# Altium schematic symbol library Altium_Library.SchLib: 21 symbols
Pins are listed as number, name and electrical type; pins without a type are passive.

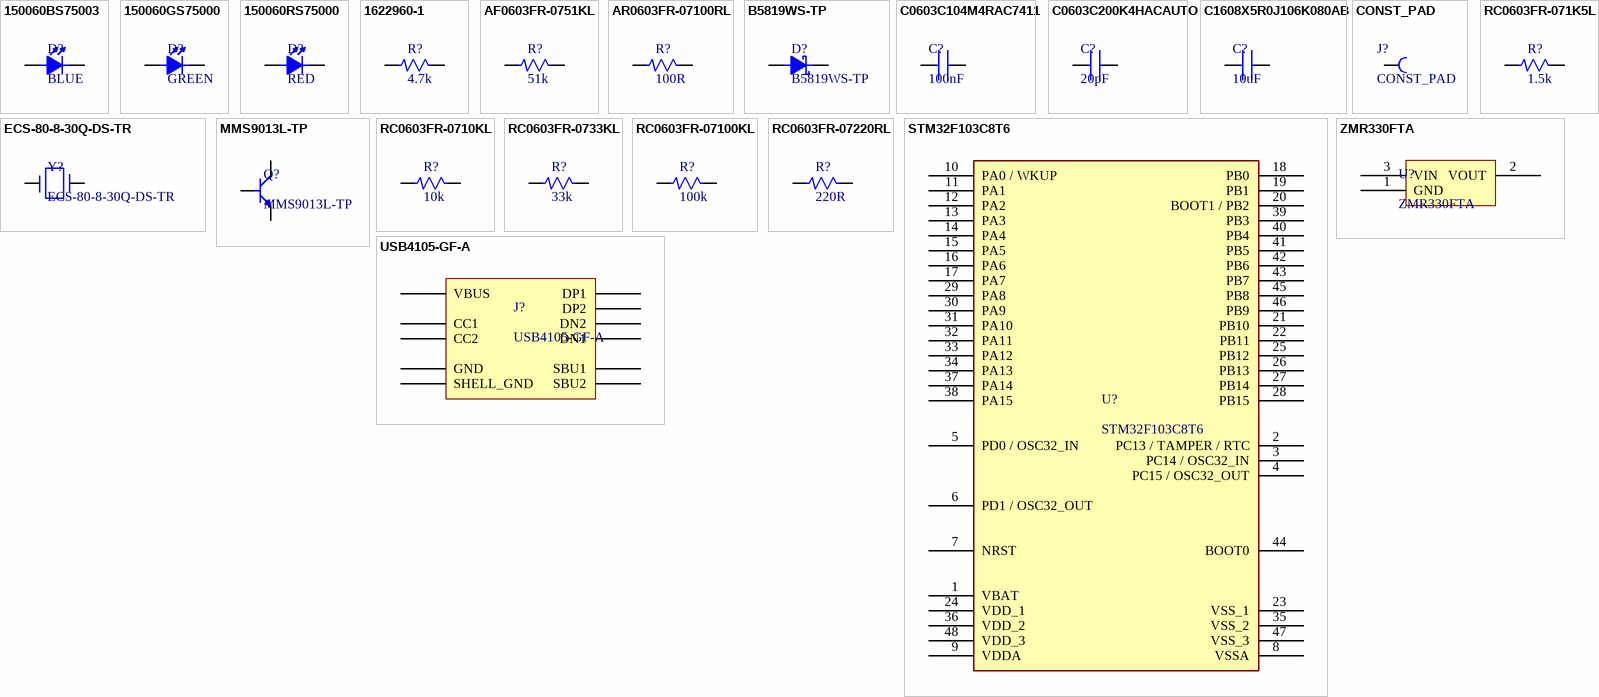
[diagram p0: symbols 150060BS75003 to ZMR330FTA]

## 150060BS75003
designator D?, comment BLUE
SMT Mono-color Chip Led Watercle; Manufacturer: Wurth Electronics; Manufacturer Part Number: 150060BS75003; Supplier 1: Rs; RoHS: No; Category: LEDs; Stock 1: 11175; Pricing 1: 50=0.00824, 100=0.18100, 500=0.16500, 2000=0.13200 (GBP); Supplier Part Number 1: 2407008P
footprint LED_0603_B
pins: 1 cathode, 2 anode

## 150060GS75000
designator D?, comment GREEN
Led, Green, 520 Nm, 3.2 V, 30 Ma, 430 Mcd Rohs Compliant: Yes; Manufacturer: Wurth Electronics; Manufacturer Part Number: 150060GS75000; Lens Color: Colorless; Wavelength: 520nm; Viewing Angle: 140°; Lens Style: Clear,Flat,Rectangular; Luminous Intensity: 430mcd; Forward Current: 30mA; Forward Voltage: 3.2V; Test Current: 20mA; Lens Transparency: Clear; Lens Size: 0.7mm; Supplier 1: Rs; RoHS: Yes; Category: LEDs; Stock 1: 20200; Pricing 1: 500=0.00083, 1000=0.07900, 2000=0.07500, 4000=0.07100 (GBP); Mount: Surface Mount; Case/Package: 0603; Color: Green; Case Code (Metric): 1608; Case Code (Imperial): 0603; Min Operating Temperature: -40°C; Max Operating Temperature: 85°C; Package Quantity: 1; Packaging: Cut Tape; Dominant Wavelength: 520nm; Series: WL-SMCW; Length: 1.6mm; Width: 0.8mm; Height: 0.8mm; Lead Free: Lead Free; RoHS Compliant: Yes; ComponentLink1URL: https://datasheet.ciiva.com/29562/150060gs75000-29562868.pdf?src-supplier=Digi-Key; ComponentLink1Description: https://datasheet.ciiva.com/29562/150060gs75000-29562868.pdf?src-supplier=Digi-Key; ComponentLink2URL: https://datasheet.ciiva.com/29279/759427-da-01-en-chipled-0603-w-kl-gruen-150060gs75000-29279201.pdf?src-supplier=Conrad; ComponentLink2Description: https://datasheet.ciiva.com/29279/759427-da-01-en-chipled-0603-w-kl-gruen-150060gs75000-29279201.pdf?src-supplier=Conrad; ComponentLink3URL: https://datasheet.ciiva.com/29562/150060gs75000-29562869.pdf?src-supplier=Digi-Key; ComponentLink3Description: https://datasheet.ciiva.com/29562/150060gs75000-29562869.pdf?src-supplier=Digi-Key; ComponentLink4URL: https://datasheet.ciiva.com/29562/150060gs75000-29562870.pdf?src-supplier=Digi-Key; ComponentLink4Description: https://datasheet.ciiva.com/29562/150060gs75000-29562870.pdf?src-supplier=Digi-Key; Supplier Part Number 1: 8154209P
footprint LED_0603_G
pins: 1 cathode, 2 anode

## 150060RS75000
designator D?, comment RED
LED Low-Power Uni-Color Red 630nm 2V 2-Pin Chip 0603(1608Metric) T/R; Manufacturer: Wurth Electronics; Manufacturer Part Number: 150060RS75000; Lens Color: Colorless; Viewing Angle: 140°; Lens Style: Clear,Flat,Rectangular; Luminous Intensity: 250mcd; Forward Current: 30mA; Wavelength: 625nm; Test Current: 20mA; Lens Transparency: Clear; Lens Size: 0.7mm; Supplier 1: Rs; RoHS: Yes; Category: LEDs; Stock 1: 8900; Pricing 1: 500=0.00083, 1000=0.07900, 2000=0.07500, 4000=0.07200 (GBP); Mount: Surface Mount; Case/Package: 0603; Color: Red; Case Code (Metric): 1608; Case Code (Imperial): 0603; Min Operating Temperature: -40°C; Max Operating Temperature: 85°C; Package Quantity: 1; Packaging: Cut Tape; Forward Voltage: 2V; Dominant Wavelength: 625nm; Series: WL-SMCW; Length: 1.6mm; Width: 0.8mm; Height: 0.8mm; RoHS Compliant: Yes; ComponentLink1URL: https://datasheet.ciiva.com/29563/150060rs75000-29563040.pdf?src-supplier=Digi-Key; ComponentLink1Description: https://datasheet.ciiva.com/29563/150060rs75000-29563040.pdf?src-supplier=Digi-Key; ComponentLink2URL: https://datasheet.ciiva.com/29279/759428-da-01-en-chipled-0603-w-kl-rot-150060rs75000-29279196.pdf?src-supplier=Conrad; ComponentLink2Description: https://datasheet.ciiva.com/29279/759428-da-01-en-chipled-0603-w-kl-rot-150060rs75000-29279196.pdf?src-supplier=Conrad; Supplier Part Number 1: 8154203P
footprint LED_0603_R
pins: 1 cathode, 2 anode

## 1622960-1
designator R?, comment 4.7k
Res Thick Film 0603 4.7K Ohm 1% 0.1W(1/10W) ±100ppm/C Pad SMD T/R; Manufacturer: TE Connectivity; Manufacturer Part Number: 1622960-1; Supplier 1: Newark; RoHS: Yes; Category: Uncategorized; Stock 1: 19907; Pricing 1: 1=0.004000, 25=0.004000, 100=0.004000, 250=0.004000, 500=0.004000, 1000=0.004000 (USD); ComponentLink1URL: https://datasheet.ciiva.com/6538/eng-cd-1622282-ba-6538072.pdf?src-supplier=Digi-Key; ComponentLink1Description: https://datasheet.ciiva.com/6538/eng-cd-1622282-ba-6538072.pdf?src-supplier=Digi-Key; ComponentLink2URL: https://datasheet.ciiva.com/8912/eng-ds-1773204-f-8912646.pdf?src-supplier=Avnet; ComponentLink2Description: https://datasheet.ciiva.com/8912/eng-ds-1773204-f-8912646.pdf?src-supplier=Avnet; Supplier Part Number 1: 46AK9345
footprint R_0603
pins: 1, 2

## AF0603FR-0751KL
designator R?, comment 51k
Res Thick Film 0603 51K Ohm 1% 1/10W ±100ppm/°C Molded SMD Paper T/R; Manufacturer: Yageo; Manufacturer Part Number: AF0603FR-0751KL; Resistance: 51kR; Max Power Dissipation: 100mW; Supplier 1: Mouser; RoHS: Yes; Category: Chip SMD Resistors; Stock 1: 893; Pricing 1: 1=0.19000, 10=0.06300, 50=0.06300, 100=0.02600, 1000=0.01200, 10000=0.00800 (USD); Case/Package: 0603; Min Operating Temperature: -55°C; Max Operating Temperature: 155°C; Packaging: Tape and Reel; Resistor Type: Thick Film; Number of Terminations: 2; Tolerance: 1%; Temperature Coefficient: 100ppm/°C; Features: Moisture Resistant,Anti-Sulfur; Length: 0.063inch; Width: 0.031inch; Height: 0.022inch; RoHS Compliant: Yes; ComponentLink1URL: http://www.yageo.com/documents/recent/PYu-AF_51_RoHS_L_5.pdf?src-supplier=Digi-Key; ComponentLink1Description: http://www.yageo.com/documents/recent/PYu-AF_51_RoHS_L_5.pdf?src-supplier=Digi-Key; Supplier Part Number 1: 603-AF0603FR-0751KL
footprint R_0603
pins: 1, 2

## AR0603FR-07100RL
designator R?, comment 100R
Res Thick Film 0603 100 Ohm 1% 1/10W ±100ppm/°C Molded SMD SMD Paper T/R; Manufacturer: Yageo; Manufacturer Part Number: AR0603FR-07100RL; Max Power Dissipation: 100mW; Supplier 1: Mouser; RoHS: Yes; Category: Chip SMD Resistors; Stock 1: 2721; Pricing 1: 1=0.44000, 10=0.33800, 50=0.33800, 100=0.14200, 1000=0.07900, 10000=0.06400 (USD); Case/Package: 0603; Contact Plating: Gold; Min Operating Temperature: -55°C; Max Operating Temperature: 155°C; Resistance: 100R; Tolerance: 1%; Packaging: Tape and Reel; Resistor Type: Thick Film; Number of Terminations: 2; Temperature Coefficient: 100ppm/°C; Features: Moisture Resistant; Series: AR; Length: 0.063inch; Width: 0.032inch; Height: 0.022inch; Radiation Hardening: No; RoHS Compliant: Yes; ComponentLink1URL: https://datasheet.ciiva.com/8887/pyu-ar-51-rohs-l-7-8887862.pdf?src-supplier=Avnet; ComponentLink1Description: https://datasheet.ciiva.com/8887/pyu-ar-51-rohs-l-7-8887862.pdf?src-supplier=Avnet; Supplier Part Number 1: 603-AR0603FR-07100RL
footprint R_0603
pins: 1, 2

## B5819WS-TP
designator D?
DIODE SCHOTTKY 40V 1A SOD323; Manufacturer: MCC; Max Surge Current: 10A; Forward Voltage: 900mV; Max Reverse Leakage Current: 1mA; Element Configuration: Single; Supplier 1: Future Electronics; Manufacturer Part Number: B5819WS-TP; RoHS: Yes; Category: Rectifier Diodes; Stock 1: 168000; Pricing 1: 3000=0.05800, 9000=0.05580, 15000=0.05480, 45000=0.05280, 75000=0.05100 (USD); Mount: Surface Mount; Number of Pins: 2; Min Operating Temperature: -65°C; Max Operating Temperature: 125°C; Package Quantity: 1; Packaging: Tape and Reel; Average Rectified Current: 1A; Peak Non-Repetitive Surge Current: 10A; Max Reverse Voltage (DC): 40V; Series: -; Radiation Hardening: No; Lead Free: Lead Free; RoHS Compliant: Yes; ComponentLink1URL: https://datasheet.ciiva.com/4715/b5817ws-b5819wssod-323-48861-4715941.pdf?src-supplier=Mouser; ComponentLink1Description: https://datasheet.ciiva.com/4715/b5817ws-b5819wssod-323-48861-4715941.pdf?src-supplier=Mouser; ComponentLink2URL: https://datasheet.ciiva.com/15200/getdatasheetpartid-184930-15200423.pdf?src-supplier=Verical; ComponentLink2Description: https://datasheet.ciiva.com/15200/getdatasheetpartid-184930-15200423.pdf?src-supplier=Verical; ComponentLink3URL: https://datasheet.ciiva.com/912/b5817ws-b5819wssod-323-912736.pdf?src-supplier=Digi-Key; ComponentLink3Description: https://datasheet.ciiva.com/912/b5817ws-b5819wssod-323-912736.pdf?src-supplier=Digi-Key; ComponentLink4URL: https://datasheet.ciiva.com/912/b5817ws-b5819wssod-323-912737.pdf?src-supplier=Digi-Key; ComponentLink4Description: https://datasheet.ciiva.com/912/b5817ws-b5819wssod-323-912737.pdf?src-supplier=Digi-Key; ComponentLink5URL: https://datasheet.ciiva.com/912/b5817ws-b5819wssod-323-912735.pdf?src-supplier=Digi-Key; ComponentLink5Description: https://datasheet.ciiva.com/912/b5817ws-b5819wssod-323-912735.pdf?src-supplier=Digi-Key; Supplier Part Number 1: 6054560
footprint SOD_323
pins: 1 cathode, 2 anode

## C0603C104M4RAC7411
designator C?, comment 100nF
Cap Ceramic 0.1uF 16V X7R 20% SMD 0603 125 Paper T/R; Manufacturer: KEMET; Manufacturer Part Number: C0603C104M4RAC7411; Dissipation Factor: 3.5%; Supplier 1: Mouser; RoHS: Yes; Category: Ceramic Capacitors; Stock 1: 1220822; Pricing 1: 1=0.10000, 10=0.02700, 50=0.02700, 100=0.01200, 1000=0.00700, 10000=0.00500 (USD); Mount: Surface Mount; Case/Package: 0603; Case Code (Imperial): 0603; Case Code (Metric): 1608; Dielectric Material: Ceramic; Min Operating Temperature: -55°C; Max Operating Temperature: 125°C; Capacitance: 100nF; Package Quantity: 10000; Voltage Rating: 16V; Tolerance: 20%; Packaging: Tape and Reel; Voltage Rating (DC): 16V; Dielectric: X7R; Termination: SMD/SMT; Series: C; Construction: Flat; Length: 1.6mm; Width: 0.8mm; Height: 0.8mm; Lead Pitch: 0.7mm; Thickness: 0.034inch; Depth: 0.8mm; Radiation Hardening: No; RoHS Compliant: Yes; ComponentLink1URL: http://components.arrow.com/part/dataview/3446650S8993799N7429?src-supplier=Arrow+Electronics; ComponentLink1Description: http://components.arrow.com/part/dataview/3446650S8993799N7429?src-supplier=Arrow+Electronics; ComponentLink2URL: http://www.mouser.com/ds/2/212/KEM_C1002_X7R_SMD-1102033.pdf?src-supplier=Mouser; ComponentLink2Description: http://www.mouser.com/ds/2/212/KEM_C1002_X7R_SMD-1102033.pdf?src-supplier=Mouser; ComponentLink3URL: http://www.farnell.com/datasheets/2747785.pdf?src-supplier=Farnell; ComponentLink3Description: http://www.farnell.com/datasheets/2747785.pdf?src-supplier=Farnell; ComponentLink4URL: http://www.jameco.com/Jameco/Products/ProdDS/1565046.pdf?src-supplier=Jameco; ComponentLink4Description: http://www.jameco.com/Jameco/Products/ProdDS/1565046.pdf?src-supplier=Jameco; ComponentLink5URL: http://www.farnell.com/datasheets/2747785.pdf?src-supplier=Element14; ComponentLink5Description: http://www.farnell.com/datasheets/2747785.pdf?src-supplier=Element14; ComponentLink6URL: http://www.farnell.com/datasheets/2747785.pdf?src-supplier=Newark; ComponentLink6Description: http://www.farnell.com/datasheets/2747785.pdf?src-supplier=Newark; ComponentLink7URL: https://api.kemet.com/component-edge/download/datasheet/C0603C104M4RAC7411.pdf?src-supplier=Digi-Key; ComponentLink7Description: https://api.kemet.com/component-edge/download/datasheet/C0603C104M4RAC7411.pdf?src-supplier=Digi-Key; ComponentLink8URL: http://www.kemet.com/docfinder?Partnumber=C0603C104M4RAC7411&src-supplier=Digi-Key; ComponentLink8Description: http://www.kemet.com/docfinder?Partnumber=C0603C104M4RAC7411&src-supplier=Digi-Key; ComponentLink9URL: http://capacitoredge.kemet.com/capedge2/DataSheet?pn=C0603C104M4RAC7411&src-supplier=Avnet; ComponentLink9Description: http://capacitoredge.kemet.com/capedge2/DataSheet?pn=C0603C104M4RAC7411&src-supplier=Avnet; ComponentLink10URL: https://www.verical.com/server-webapp/html/getDatasheet?partID=58458&src-supplier=Verical; ComponentLink10Description: https://www.verical.com/server-webapp/html/getDatasheet?partID=58458&src-supplier=Verical; Supplier Part Number 1: 80-C0603C104M4R7411
footprint C_0603
pins: 1, 2

## C0603C200K4HACAUTO
designator C?, comment 20pF
Cap Cer 0603 20PF 16V Ultra Stab; Manufacturer: KEMET; Manufacturer Part Number: C0603C200K4HACAUTO; Supplier 1: Mouser; RoHS: Yes; Category: Ceramic Capacitors; Stock 1: 12700; Pricing 1: 1=0.18000, 10=0.08500, 50=0.08500, 100=0.04000, 1000=0.02400, 10000=0.02000 (USD); RoHS Compliant: Yes; Supplier Part Number 1: 80-C0603C200K4HAUTO
footprint C_0603
pins: 1, 2

## C1608X5R0J106K080AB
designator C?, comment 10uF
C Series 0603 10 uF 6.3 V ±10 % Tolerance X5R SMT Multilayer Ceramic Capacitor; Manufacturer: TDK; Manufacturer Part Number: C1608X5R0J106K080AB; Voltage Rating: 6.3V; Tolerance: 10%; Supplier 1: Rs; RoHS: Yes; Category: Ceramic Capacitors; Stock 1: 5030; Pricing 1: 50=0.01610, 100=0.14500, 250=0.12600, 500=0.10600 (GBP); Mount: Surface Mount; Case/Package: 0603; Case Code (Metric): 1608; Case Code (Imperial): 0603; Dielectric Material: Ceramic; Weight: 7.1E-05oz; Min Operating Temperature: -55°C; Max Operating Temperature: 85°C; Capacitance: 10uF; Packaging: Tape and Reel; Voltage Rating (DC): 6.3V; Dielectric: X5R; Termination: SMD/SMT; Construction: Flat; Package Quantity: 1; Resistor Type: Ceramic; Voltage: 6.3V; Series: C; Length: 1.6mm; Width: 0.031inch; Height: 0.8mm; Depth: 0.8mm; Thickness: 0.035inch; Radiation Hardening: No; Lead Free: Lead Free; Reach SVHC Compliant: Yes; RoHS Compliant: Yes; ComponentLink1URL: https://datasheet.ciiva.com/23802/1796654-23802758.pdf?src-supplier=Newark; ComponentLink1Description: https://datasheet.ciiva.com/23802/1796654-23802758.pdf?src-supplier=Newark; ComponentLink2URL: https://datasheet.ciiva.com/6288/tdkmlcccaprange-6288538.pdf?src-supplier=Digi-Key; ComponentLink2Description: https://datasheet.ciiva.com/6288/tdkmlcccaprange-6288538.pdf?src-supplier=Digi-Key; ComponentLink3URL: https://datasheet.ciiva.com/28451/1796654-28451132.pdf?src-supplier=Element14; ComponentLink3Description: https://datasheet.ciiva.com/28451/1796654-28451132.pdf?src-supplier=Element14; ComponentLink4URL: https://datasheet.ciiva.com/6288/tdkmlcccaprange-6288541.pdf?src-supplier=Digi-Key; ComponentLink4Description: https://datasheet.ciiva.com/6288/tdkmlcccaprange-6288541.pdf?src-supplier=Digi-Key; ComponentLink5URL: https://datasheet.ciiva.com/16448/general-b11-16448959.pdf?src-supplier=Future+Electronics; ComponentLink5Description: https://datasheet.ciiva.com/16448/general-b11-16448959.pdf?src-supplier=Future+Electronics; ComponentLink6URL: https://datasheet.ciiva.com/22719/1796654-22719535.pdf?src-supplier=Element14; ComponentLink6Description: https://datasheet.ciiva.com/22719/1796654-22719535.pdf?src-supplier=Element14; Supplier Part Number 1: 7882887P
footprint C_0603
pins: 1, 2

## CONST_PAD
designator J?  (no BOM)
footprint CONST_PAD
pins: 0 PAD

## ECS-80-8-30Q-DS-TR
designator Y?
Crystal 8.000 Mhz 8PF SMD; Manufacturer: ECS International; Supplier 1: Mouser; Manufacturer Part Number: ECS-80-8-30Q-DS-TR; RoHS: Yes; Category: Uncategorized; Stock 1: 2000; Pricing 1: 1=0.84000, 10=0.73600, 50=0.73600, 100=0.60800, 1000=0.47900, 10000=0.43100 (USD); RoHS Compliant: Yes; Supplier Part Number 1: 520-80-8-30Q-DS-TR
footprint ECS-80-8-30Q-DS-TR
pins: 1, 2

## MMS9013L-TP
designator Q?
Trans Gp Bjt NPN 25V 0.5A 3-PIN SOT-23 T/r; Manufacturer: MCC; Number of Elements: 1; Collector Base Voltage (VCBO): 40V; Emitter Base Voltage (VEBO): 5V; Power Dissipation: 300mW; Frequency: 150MHz; Supplier 1: Mouser; Manufacturer Part Number: MMS9013L-TP; RoHS: Yes; Category: BJTs; Stock 1: 2960; Pricing 1: 1=0.28000, 10=0.22800, 50=0.22800, 100=0.12100, 1000=0.05500, 10000=0.03600 (USD); Mount: Surface Mount; Case/Package: SOT-23; Number of Pins: 3; Min Operating Temperature: -55°C; Max Operating Temperature: 150°C; Polarity: NPN; Packaging: Tape and Reel; Collector Emitter Voltage (VCEO): 25V; ComponentLink1URL: http://components.arrow.com/part/dataview/51062823S110403N2022?src-supplier=Arrow+Electronics; ComponentLink1Description: http://components.arrow.com/part/dataview/51062823S110403N2022?src-supplier=Arrow+Electronics; Supplier Part Number 1: 833-MMS9013L-TP
footprint SOT_23
pins: 1, 2, 3

## RC0603FR-071K5L
designator R?, comment 1.5k
Res General Purpose Thick Film 0603 1.5K Ohm 1% 1/10W ±100ppm/°C Molded SMD Paper T/R; Manufacturer: Yageo; Manufacturer Part Number: RC0603FR-071K5L; Voltage Rating (DC): 50V; Resistance: 1.5kR; Power Rating: 100mW; Supplier 1: Future Electronics; RoHS: Yes; Category: Chip SMD Resistors; Stock 1: 16310000; Pricing 1: 5000=0.00150, 50000=0.00140, 100000=0.00140, 200000=0.00140, 375000=0.00140, 625000=0.00130, 1250000=0.00130, 2000000=0.00120, 5000000=0.00120 (USD); Case/Package: 0603; Number of Pins: 2; Case Code (Metric): 1608; Case Code (Imperial): 0603; Size Code: 0603; Min Operating Temperature: -55°C; Max Operating Temperature: 155°C; Tolerance: 1%; Packaging: Tape and Reel; Temperature Coefficient: 100ppm/°C; Resistor Type: Thick Film; Voltage Rating: 50V; Package Quantity: 1; Number of Terminations: 2; Termination: SMD/SMT; Max Power Dissipation: 100mW; Features: Moisture Resistant; Series: RC; Resistance Tolerance: 1%; Construction: Rectangular; Length: 0.063inch; Width: 0.031inch; Height: 0.022inch; Depth: 0.8mm; Reach SVHC Compliant: Yes; Lead Free: Lead Free; Military Standard: Not; RoHS Compliant: Yes; Supplier Part Number 1: 5194295
footprint R_0603
pins: 1, 2

## RC0603FR-0710KL
designator R?, comment 10k
RES SMD 10K OHM 1% 1/10W 0603; Manufacturer: Yageo; Manufacturer Part Number: RC0603FR-0710KL; Voltage Rating (DC): 50V; Resistance: 10kR; Temperature Coefficient: 100ppm/°C; Power Rating: 100mW; Voltage Rating: 75V; Supplier 1: Future Electronics; RoHS: Yes; Category: Chip SMD Resistors; Stock 1: 252929; Pricing 1: 1=0.10000, 20=0.06640, 100=0.04840, 500=0.03040, 2500=0.01240 (USD); Case/Package: 0603; Number of Pins: 2; Case Code (Imperial): 0603; Case Code (Metric): 1608; Weight: 7.1E-05oz; Size Code: 0603; Min Operating Temperature: -55°C; Max Operating Temperature: 155°C; Packaging: Tape and Reel; Tolerance: 1%; Resistor Type: Thick Film; Termination: SMD/SMT; Features: Moisture Resistant; Series: RC; Max Power Dissipation: 100mW; Number of Terminations: 2; Resistance Tolerance: 1%; Construction: Rectangular; Length: 1.6mm; Width: 0.8mm; Height: 0.45mm; Depth: 0.8mm; Lead Pitch: 0.3mm; Reach SVHC Compliant: Yes; Lead Free: Lead Free; Military Standard: Not; RoHS Compliant: Yes; ComponentLink1URL: https://datasheet.ciiva.com/7660/38590-7660789.pdf?src-supplier=Element14; ComponentLink1Description: https://datasheet.ciiva.com/7660/38590-7660789.pdf?src-supplier=Element14; ComponentLink2URL: https://datasheet.ciiva.com/7983/443971-7983596.pdf?src-supplier=Element14; ComponentLink2Description: https://datasheet.ciiva.com/7983/443971-7983596.pdf?src-supplier=Element14; ComponentLink3URL: https://datasheet.ciiva.com/22747/443971-22747519.pdf?src-supplier=Element14; ComponentLink3Description: https://datasheet.ciiva.com/22747/443971-22747519.pdf?src-supplier=Element14; ComponentLink4URL: https://datasheet.ciiva.com/46440/1868787-46440891.pdf?src-supplier=Element14; ComponentLink4Description: https://datasheet.ciiva.com/46440/1868787-46440891.pdf?src-supplier=Element14; ComponentLink5URL: https://datasheet.ciiva.com/7746/1738695-7746239.pdf?src-supplier=Element14; ComponentLink5Description: https://datasheet.ciiva.com/7746/1738695-7746239.pdf?src-supplier=Element14; Supplier Part Number 1: 3349388
footprint R_0603
pins: 1, 2

## RC0603FR-0733KL
designator R?, comment 33k
Res Thick Film 0603 33K Ohm 1% 0.1W(1/10W) ±100ppm/C Pad SMD T/R; Manufacturer: Yageo; Manufacturer Part Number: RC0603FR-0733KL; Resistance: 33kR; Voltage Rating (DC): 50V; Temperature Coefficient: 100ppm/°C; Power Rating: 100mW; Supplier 1: Future Electronics; RoHS: Yes; Category: Chip SMD Resistors; Stock 1: 3300000; Pricing 1: 5000=0.00140, 50000=0.00130, 200000=0.00130, 625000=0.00120, 2000000=0.00110 (USD); Case/Package: 0603; Number of Pins: 2; Case Code (Imperial): 0603; Case Code (Metric): 1608; Size Code: 0603; Min Operating Temperature: -55°C; Max Operating Temperature: 155°C; Tolerance: 1%; Packaging: Tape and Reel; Resistor Type: Thick Film; Voltage Rating: 50V; Package Quantity: 1; Termination: SMD/SMT; Number of Terminations: 2; Max Power Dissipation: 100mW; Features: Moisture Resistant; Series: RC; Resistance Tolerance: 1%; Construction: Rectangular; Length: 0.063inch; Width: 0.031inch; Height: 0.022inch; Depth: 0.8mm; Reach SVHC Compliant: Yes; Lead Free: Lead Free; Military Standard: Not; RoHS Compliant: Yes; ComponentLink1URL: https://datasheet.ciiva.com/46395/443971-46395005.pdf?src-supplier=Element14; ComponentLink1Description: https://datasheet.ciiva.com/46395/443971-46395005.pdf?src-supplier=Element14; ComponentLink2URL: https://datasheet.ciiva.com/2454/pyu-r-int-thick-7-2454010.pdf?src-supplier=Digi-Key; ComponentLink2Description: https://datasheet.ciiva.com/2454/pyu-r-int-thick-7-2454010.pdf?src-supplier=Digi-Key; ComponentLink3URL: https://datasheet.ciiva.com/2454/pyu-r-int-thick-7-2454011.pdf?src-supplier=Digi-Key; ComponentLink3Description: https://datasheet.ciiva.com/2454/pyu-r-int-thick-7-2454011.pdf?src-supplier=Digi-Key; ComponentLink4URL: https://datasheet.ciiva.com/2454/pyu-r-int-thick-7-2454009.pdf?src-supplier=Digi-Key; ComponentLink4Description: https://datasheet.ciiva.com/2454/pyu-r-int-thick-7-2454009.pdf?src-supplier=Digi-Key; ComponentLink5URL: https://datasheet.ciiva.com/7746/443971-7746332.pdf?src-supplier=Element14; ComponentLink5Description: https://datasheet.ciiva.com/7746/443971-7746332.pdf?src-supplier=Element14; ComponentLink6URL: https://datasheet.ciiva.com/7746/443971-7746333.pdf?src-supplier=Element14; ComponentLink6Description: https://datasheet.ciiva.com/7746/443971-7746333.pdf?src-supplier=Element14; ComponentLink7URL: https://datasheet.ciiva.com/15189/getdatasheetpartid-353493-15189706.pdf?src-supplier=Verical; ComponentLink7Description: https://datasheet.ciiva.com/15189/getdatasheetpartid-353493-15189706.pdf?src-supplier=Verical; Supplier Part Number 1: 9831728
footprint R_0603
pins: 1, 2

## RC0603FR-07100KL
designator R?, comment 100k
RES SMD 100K OHM 1% 1/10W 0603; Manufacturer: Yageo; Manufacturer Part Number: RC0603FR-07100KL; Resistance: 100kR; Voltage Rating (DC): 50V; Temperature Coefficient: 100ppm/°C; Power Rating: 100mW; Working Voltage: 75V; Supplier 1: Future Electronics; RoHS: Yes; Category: Chip SMD Resistors; Stock 1: 32435000; Pricing 1: 5000=0.00140, 50000=0.00130, 200000=0.00130, 625000=0.00120, 2000000=0.00110 (USD); Case/Package: 0603; Number of Pins: 2; Case Code (Imperial): 0603; Case Code (Metric): 1608; Min Operating Temperature: -55°C; Max Operating Temperature: 155°C; Tolerance: 1%; Packaging: Tape and Reel; Resistor Type: Thick Film; Voltage Rating: 50V; Termination: SMD/SMT; Number of Terminations: 2; Features: Moisture Resistant; Series: RC; Max Power Dissipation: 100mW; Resistance Tolerance: 1%; Construction: Rectangular; Technology: THICK FILM; Length: 1.6mm; Width: 0.8mm; Height: 0.45mm; Depth: 0.8mm; Reach SVHC Compliant: Yes; Lead Free: Lead Free; Military Standard: Not; RoHS Compliant: Yes; Supplier Part Number 1: 3697448
footprint R_0603
pins: 1, 2

## RC0603FR-07220RL
designator R?, comment 220R
Res Thick Film 0603 220 Ohm 1% 0.1W(1/10W) ±100ppm/°C Pad SMD T/R; Manufacturer: Yageo; Manufacturer Part Number: RC0603FR-07220RL; Voltage Rating (DC): 50V; Power Rating: 100mW; Supplier 1: Future Electronics; RoHS: Yes; Category: Chip SMD Resistors; Stock 1: 2420000; Pricing 1: 5000=0.00140, 50000=0.00130, 200000=0.00130, 625000=0.00120, 2000000=0.00110 (USD); Case/Package: 0603; Number of Pins: 2; Case Code (Imperial): 0603; Case Code (Metric): 1608; Size Code: 0603; Min Operating Temperature: -55°C; Max Operating Temperature: 155°C; Resistance: 220R; Tolerance: 1%; Packaging: Tape and Reel; Temperature Coefficient: 100ppm/°C; Resistor Type: Thick Film; Voltage Rating: 50V; Package Quantity: 1; Termination: SMD/SMT; Number of Terminations: 2; Max Power Dissipation: 100mW; Features: Moisture Resistant; Series: RC; Resistance Tolerance: 1%; Construction: Rectangular; Length: 0.063inch; Width: 0.031inch; Height: 0.022inch; Depth: 0.8mm; Reach SVHC Compliant: Yes; Lead Free: Lead Free; Military Standard: Not; RoHS Compliant: Yes; ComponentLink1URL: https://datasheet.ciiva.com/2453/pyu-r-int-thick-7-2453974.pdf?src-supplier=Digi-Key; ComponentLink1Description: https://datasheet.ciiva.com/2453/pyu-r-int-thick-7-2453974.pdf?src-supplier=Digi-Key; ComponentLink2URL: https://datasheet.ciiva.com/2453/pyu-r-int-thick-7-2453975.pdf?src-supplier=Digi-Key; ComponentLink2Description: https://datasheet.ciiva.com/2453/pyu-r-int-thick-7-2453975.pdf?src-supplier=Digi-Key; ComponentLink3URL: https://datasheet.ciiva.com/2453/pyu-r-int-thick-7-2453973.pdf?src-supplier=Digi-Key; ComponentLink3Description: https://datasheet.ciiva.com/2453/pyu-r-int-thick-7-2453973.pdf?src-supplier=Digi-Key; ComponentLink4URL: https://datasheet.ciiva.com/7746/1738695-7746301.pdf?src-supplier=Element14; ComponentLink4Description: https://datasheet.ciiva.com/7746/1738695-7746301.pdf?src-supplier=Element14; ComponentLink5URL: https://datasheet.ciiva.com/7746/1738695-7746300.pdf?src-supplier=Element14; ComponentLink5Description: https://datasheet.ciiva.com/7746/1738695-7746300.pdf?src-supplier=Element14; Supplier Part Number 1: 9705021
footprint R_0603
pins: 1, 2

## STM32F103C8T6
designator U?
IC MCU 32BIT 64KB FLASH 48LQFP; Manufacturer: STMicroelectronics; RAM Size: 20KB; Frequency: 72MHz; Max Power Dissipation: 363mW; Interface: I2C,SPI,USB,CAN,USART; Number of I/Os: 37; Number of Timers/Counters: 3; Max Supply Voltage: 3.6V; Number of ADC Channels: 10; Min Supply Voltage: 2V; Oscillator Type: Internal; Number of Programmable I/O: 48; Data Bus Width: 32b; Number of Bits: 32; Watchdog Timer: Yes; Peripherals: POR,PWM,WDT,DMA,Temp Sensor,I2C; Core Architecture: ARM; Number of PWM Channels: 1; Number of SPI Channels: 2; Supplier 1: Mouser; Manufacturer Part Number: STM32F103C8T6; RoHS: Yes; Category: Microcontrollers; Stock 1: 33571; Pricing 1: 1=6.66000, 10=6.02000, 50=4.98000, 100=4.98000, 1000=3.75000, 10000=3.67000 (USD); Case/Package: LQFP; Number of Pins: 48; Weight: 0.006349oz; Min Operating Temperature: -40°C; Max Operating Temperature: 85°C; Packaging: Tray; Package Quantity: 1500; Density: 64KB; Memory Type: FLASH; Max Frequency: 72MHz; Memory Size: 64KB; Series: STM32F103C8; Termination: SMD/SMT; Number of I2C Channels: 2; Address Bus Width: 32b; Length: 7mm; Width: 7mm; Height: 1.4mm; Radiation Hardening: No; Lead Free: Lead Free; Reach SVHC Compliant: Yes; RoHS Compliant: Yes; ComponentLink1URL: https://datasheet.ciiva.com/15122/getdatasheetpartid-69880-15122076.pdf?src-supplier=Verical; ComponentLink1Description: https://datasheet.ciiva.com/15122/getdatasheetpartid-69880-15122076.pdf?src-supplier=Verical; ComponentLink2URL: https://datasheet.ciiva.com/8054/1730126-8054942.pdf?src-supplier=Element14; ComponentLink2Description: https://datasheet.ciiva.com/8054/1730126-8054942.pdf?src-supplier=Element14; ComponentLink3URL: https://datasheet.ciiva.com/14100/pustm-arm-microcont-stm32f103-en-14100508.pdf?src-supplier=Distrelec; ComponentLink3Description: https://datasheet.ciiva.com/14100/pustm-arm-microcont-stm32f103-en-14100508.pdf?src-supplier=Distrelec; ComponentLink4URL: https://datasheet.ciiva.com/16210/cd00161566-16210248.pdf?src-supplier=Future+Electronics; ComponentLink4Description: https://datasheet.ciiva.com/16210/cd00161566-16210248.pdf?src-supplier=Future+Electronics; ComponentLink5URL: https://datasheet.ciiva.com/48687/001075658-da-01-en-mcu-64kb-mem-stm32f103c8t6-lqfp-48-stm-48687589.pdf?src-supplier=Conrad; ComponentLink5Description: https://datasheet.ciiva.com/48687/001075658-da-01-en-mcu-64kb-mem-stm32f103c8t6-lqfp-48-stm-48687589.pdf?src-supplier=Conrad; Supplier Part Number 1: 511-STM32F103C8T6
footprint LQFP48
pins: 1 VBAT, 2 PC13 / TAMPER / RTC, 3 PC14 / OSC32_IN, 4 PC15 / OSC32_OUT, 5 PD0 / OSC32_IN, 6 PD1 / OSC32_OUT, 7 NRST, 8 VSSA, 9 VDDA, 10 PA0 / WKUP, 11 PA1, 12 PA2, 13 PA3, 14 PA4, 15 PA5, 16 PA6, 17 PA7, 18 PB0, 19 PB1, 20 BOOT1 / PB2, 21 PB10, 22 PB11, 23 VSS_1, 24 VDD_1, 25 PB12, 26 PB13, 27 PB14, 28 PB15, 29 PA8, 30 PA9, 31 PA10, 32 PA11, 33 PA12, 34 PA13, 35 VSS_2, 36 VDD_2, 37 PA14, 38 PA15, 39 PB3, 40 PB4, 41 PB5, 42 PB6, 43 PB7, 44 BOOT0, 45 PB8, 46 PB9, 47 VSS_3, 48 VDD_3

## USB4105-GF-A
designator J?
Conn USB 2.0 Type C RCP 24 POS 0.3mm/0.5mm Solder RA SMD 24 Terminal 1 Port T/R; Manufacturer: Global Connector Technology; Gender: Receptacle; Mating Cycles: 10000; Shielding: Shielded; Number of Ports: 1; Supplier 1: Future Electronics; Manufacturer Part Number: USB4105-GF-A; RoHS: No; Category: USB Connectors; Stock 1: 800; Pricing 1: 800=0.45000, 1600=0.44000, 2400=0.43500, 3200=0.43000, 4000=0.42000 (USD); Mount: Surface Mount,Through Hole,Horizontal; Contact Plating: Gold; Insulation Color: Black; Min Operating Temperature: -40°C; Max Operating Temperature: 85°C; Connector Type: USB; Series: USB4105; Termination: Solder; Flammability Rating: UL94 V-0; ComponentLink1URL: https://gct.co/files/drawings/usb4105.pdf?src-supplier=Digi-Key; ComponentLink1Description: https://gct.co/files/drawings/usb4105.pdf?src-supplier=Digi-Key; Supplier Part Number 1: 3158113
footprint USB4105-GF-A
pins: CC1, CC2, DN1, DN2, DP1, DP2, GND, SBU1, SBU2, SHELL_GND, VBUS

## ZMR330FTA
designator U?
ZMR330 Series 3.3 V 50 mA Fixed Output SMT Miniature Voltage Regulator - SOT-23; Manufacturer: Diodes Zetex; Power Rating: 500mW; Max Input Voltage: 24V; Min Input Voltage: 4.8V; Number of Outputs: 1; Max Output Current: 50mA; Output Voltage: 3.3V; Polarity: Positive; Power Supply Rejection Ratio (PSRR): 55dB; Supplier 1: Rs; Manufacturer Part Number: ZMR330FTA; RoHS: Yes; Category: Voltage Regulators - Linear; Stock 1: 4550; Pricing 1: 30=0.15480, 150=0.66200, 750=0.55400, 1500=0.43800 (GBP); Mount: Surface Mount; Case/Package: SOT-23; Number of Pins: 3; Weight: 0.000282oz; Min Operating Temperature: -55°C; Max Operating Temperature: 125°C; Max Power Dissipation: 500mW; Package Quantity: 3000; Packaging: Tape and Reel; Output Current: 50mA; Number of Regulators: 1; Power Dissipation: 500mW; Min Output Voltage: 3.3V; Output Type: Fixed; Series: -; Length: 3.04mm; Width: 1.4mm; Height: 1.02mm; Radiation Hardening: No; Reach SVHC Compliant: Yes; Lead Free: Lead Free; RoHS Compliant: Yes; ComponentLink1URL: https://datasheet.ciiva.com/2040/zmrseries-2040368.pdf?src-supplier=Digi-Key; ComponentLink1Description: https://datasheet.ciiva.com/2040/zmrseries-2040368.pdf?src-supplier=Digi-Key; ComponentLink2URL: https://datasheet.ciiva.com/8240/zmrseries-8240837.pdf?src-supplier=Avnet; ComponentLink2Description: https://datasheet.ciiva.com/8240/zmrseries-8240837.pdf?src-supplier=Avnet; ComponentLink3URL: https://datasheet.ciiva.com/16509/zmrseries-16509194.pdf?src-supplier=Future+Electronics; ComponentLink3Description: https://datasheet.ciiva.com/16509/zmrseries-16509194.pdf?src-supplier=Future+Electronics; Supplier Part Number 1: 7106313P
footprint SOT_23_REG
pins: 1 GND, 2 VOUT, 3 VIN